# Altium footprint library VH3.96.PcbLib: 14 footprints
Each footprint in its own frame and in the unit in brackets; x right, y up, seen from the top. Pads: shape width x height; smd on the part's side, far side on the other; paste and mask are expansions set on the pad; w line width, h text height; cw(c..) or ccw(c..) is an arc to the next point about the centre after c.
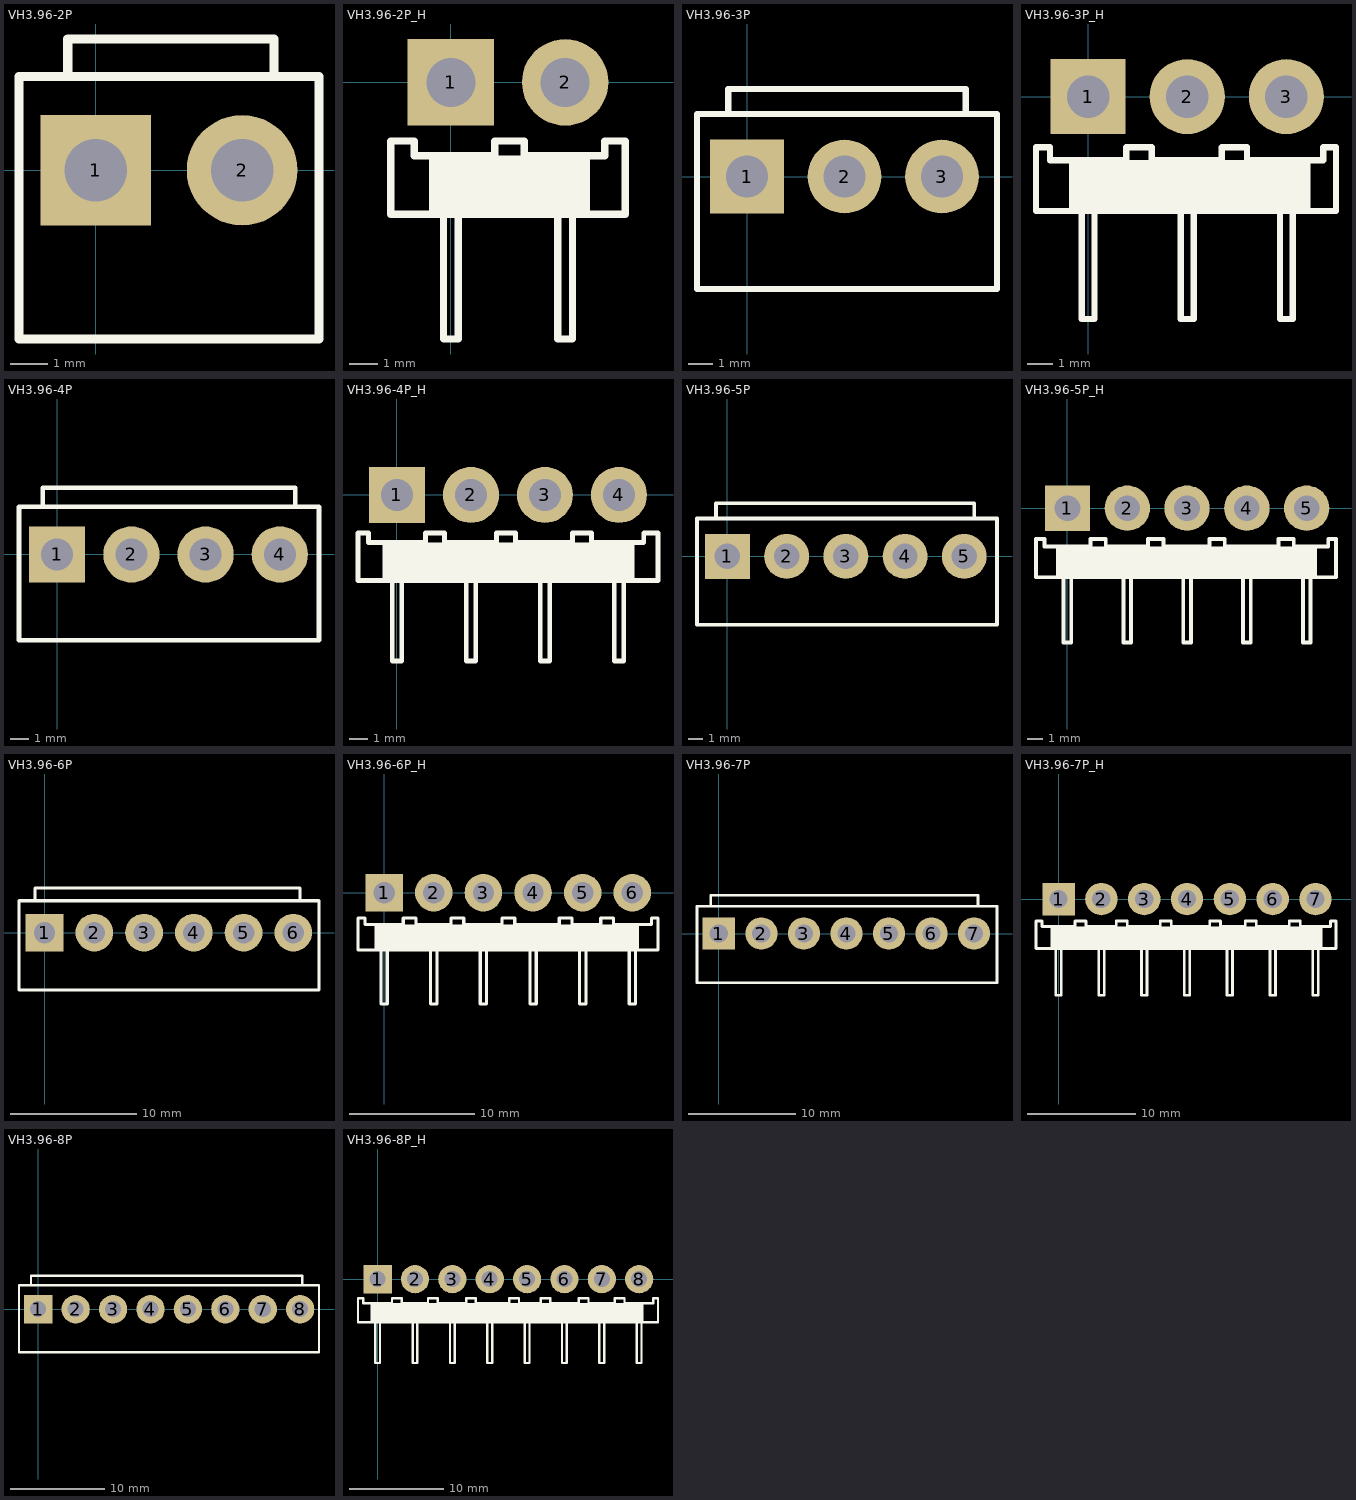
[diagram p0: the footprints below, top view; thin cyan lines are the x and y axes]

## VH3.96-2P [mm] "接插件，25V/5A"
pads (2):
  rect 3x3 hole 1.7: 1(0,0)
  round 3 hole 1.7: 2(3.962,0)
Top Overlay:
  lines w0.254: -0.762,2.54 -0.762,3.556 4.826,3.556 4.826,2.54 ; 6.045,0 6.045,-4.572 ; 6.045,-4.572 -0.356,-4.572 -2.083,-4.572 -2.083,2.54 6.045,2.54 6.045,-4.572
3D body: height 10.5, standoff -3.3, extent 1.96,-4.4 6.01,4.16
3D body: height 10.5, standoff -3.3, extent -2,-4.4 2.05,4.16

## VH3.96-2P_H [mm] "接插件，25V/5A"
pads (2):
  rect 3x3 hole 1.7: 1(0,0)
  round 3 hole 1.7: 2(3.962,0)
Top Overlay:
  rectangle: -0.762,-4.572 4.826,-2.54
  lines w0.254: 3.607,-4.572 4.216,-4.572 4.216,-8.89 3.962,-8.89 3.708,-8.89 3.708,-4.572 ; 6.045,-4.572 6.045,-2.032 ; 6.045,-4.572 -0.254,-4.572 -0.254,-8.89 0,-8.89 0.254,-8.89 0.254,-4.572 -0.356,-4.572 -2.083,-4.572 -2.083,-2.032 -1.27,-2.032 -1.27,-2.54 1.524,-2.54 1.524,-2.032 2.54,-2.032 2.54,-2.54 5.334,-2.54 5.334,-2.032 6.045,-2.032 ; 6.045,-4.572 6.045,-2.032
3D body: height 8.76, standoff -3.55, extent -2.025,-12 2.025,0.6
3D body: height 8.76, standoff -3.55, extent 1.937,-12 5.987,0.6

## VH3.96-3P [mm] "接插件，25V/5A"
pads (3):
  rect 3x3 hole 1.7: 1(0,0)
  round 3 hole 1.7: 2(3.962,0) 3(7.922,0)
Top Overlay:
  lines w0.254: -0.762,2.54 -0.762,3.556 8.89,3.556 8.89,2.54 ; -2.032,-4.572 -0.356,-4.572 10.16,-4.572 10.16,2.54 -2.032,2.54 -2.032,-4.572
3D body: height 10.5, standoff -3.3, extent 1.96,-4.4 6.01,4.16
3D body: height 10.5, standoff -3.3, extent -2,-4.4 2.05,4.16
3D body: height 10.5, standoff -3.3, extent 5.92,-4.4 9.97,4.16

## VH3.96-3P_H [mm] "接插件，25V/5A"
pads (3):
  rect 3x3 hole 1.7: 1(0,0)
  round 3 hole 1.7: 2(3.962,0) 3(7.92,0)
Top Overlay:
  rectangle: -0.762,-4.572 8.89,-2.54
  lines w0.254: 3.607,-4.572 4.216,-4.572 4.216,-8.89 3.962,-8.89 3.708,-8.89 3.708,-4.572 ; 7.564,-4.572 8.174,-4.572 8.174,-8.89 7.92,-8.89 7.666,-8.89 7.666,-4.572 ; -2.083,-4.572 -2.083,-2.032 -1.524,-2.032 -1.524,-2.54 1.524,-2.54 1.524,-2.032 2.54,-2.032 2.54,-2.54 5.334,-2.54 5.334,-2.032 6.045,-2.032 6.35,-2.032 6.35,-2.54 9.398,-2.54 9.398,-2.032 9.906,-2.032 9.906,-4.572 -0.254,-4.572 -0.254,-8.89 0,-8.89 0.254,-8.89 0.254,-4.572 -0.356,-4.572 -2.083,-4.572
3D body: height 8.76, standoff -3.55, extent -2.025,-12 2.025,0.6
3D body: height 8.76, standoff -3.55, extent 5.895,-12 9.945,0.6
3D body: height 8.76, standoff -3.55, extent 1.935,-12 5.985,0.6

## VH3.96-4P [mm] "接插件，25V/5A"
pads (4):
  rect 3x3 hole 1.7: 1(0,0)
  round 3 hole 1.7: 2(3.962,0) 3(7.922,0) 4(11.882,0)
Top Overlay:
  lines w0.254: -0.762,2.54 -0.762,3.556 12.7,3.556 12.7,2.54 ; -2.032,-4.572 -2.032,2.54 13.97,2.54 13.97,-4.572 -0.356,-4.572 -2.032,-4.572
3D body: height 10.5, standoff -3.3, extent -2,-4.4 2.05,4.16
3D body: height 10.5, standoff -3.3, extent 1.96,-4.4 6.01,4.16
3D body: height 10.5, standoff -3.3, extent 5.92,-4.4 9.97,4.16
3D body: height 10.5, standoff -3.3, extent 9.88,-4.4 13.93,4.16

## VH3.96-4P_H [mm] "接插件，25V/5A"
pads (4):
  rect 3x3 hole 1.7: 1(0,0)
  round 3 hole 1.7: 2(3.962,0) 3(7.92,0) 4(11.88,0)
Top Overlay:
  rectangle: -0.762,-4.572 12.7,-2.54
  lines w0.254: 3.607,-4.572 4.216,-4.572 4.216,-8.89 3.962,-8.89 3.708,-8.89 3.708,-4.572 ; 7.564,-4.572 8.174,-4.572 8.174,-8.89 7.92,-8.89 7.666,-8.89 7.666,-4.572 ; 11.524,-4.572 12.134,-4.572 12.134,-8.89 11.88,-8.89 11.626,-8.89 11.626,-4.572 ; -2.083,-4.572 -0.356,-4.572 0.254,-4.572 0.254,-8.89 0,-8.89 -0.254,-8.89 -0.254,-4.572 13.97,-4.572 13.97,-2.54 13.97,-2.032 13.208,-2.032 13.208,-2.54 10.414,-2.54 10.414,-2.032 9.906,-2.032 9.398,-2.032 9.398,-2.54 6.35,-2.54 6.35,-2.032 6.045,-2.032 5.334,-2.032 5.334,-2.54 2.54,-2.54 2.54,-2.032 1.524,-2.032 1.524,-2.54 -1.524,-2.54 -1.524,-2.032 -2.083,-2.032 -2.083,-4.572
3D body: height 8.76, standoff -3.55, extent -2.025,-12 2.025,0.6
3D body: height 8.76, standoff -3.55, extent 1.935,-12 5.985,0.6
3D body: height 8.76, standoff -3.55, extent 9.855,-12 13.905,0.6
3D body: height 8.76, standoff -3.55, extent 5.895,-12 9.945,0.6

## VH3.96-5P [mm] "接插件，25V/5A"
pads (5):
  rect 3x3 hole 1.7: 1(0,0)
  round 3 hole 1.7: 2(3.962,0) 3(7.922,0) 4(11.882,0) 5(15.842,0)
Top Overlay:
  lines w0.254: -0.762,2.54 -0.762,3.556 16.51,3.556 16.51,2.54 ; -2.032,-4.572 -2.032,2.54 18.034,2.54 18.034,-4.572 -0.356,-4.572 -2.032,-4.572
3D body: height 10.5, standoff -3.3, extent 13.84,-4.4 17.89,4.16
3D body: height 10.5, standoff -3.3, extent -2,-4.4 2.05,4.16
3D body: height 10.5, standoff -3.3, extent 1.96,-4.4 6.01,4.16
3D body: height 10.5, standoff -3.3, extent 5.92,-4.4 9.97,4.16
3D body: height 10.5, standoff -3.3, extent 9.878,-4.4 13.928,4.16

## VH3.96-5P_H [mm] "接插件，25V/5A"
pads (5):
  rect 3x3 hole 1.7: 1(0,0)
  round 3 hole 1.7: 2(3.962,0) 3(7.92,0) 4(11.88,0) 5(15.84,0)
Top Overlay:
  rectangle: -0.762,-4.572 16.51,-2.54
  lines w0.254: 3.607,-4.572 4.216,-4.572 4.216,-8.89 3.962,-8.89 3.708,-8.89 3.708,-4.572 ; 7.564,-4.572 8.174,-4.572 8.174,-8.89 7.92,-8.89 7.666,-8.89 7.666,-4.572 ; 11.524,-4.572 12.134,-4.572 12.134,-8.89 11.88,-8.89 11.626,-8.89 11.626,-4.572 ; 15.484,-4.572 16.094,-4.572 16.094,-8.89 15.84,-8.89 15.586,-8.89 15.586,-4.572 ; -2.083,-4.572 -0.356,-4.572 0.254,-4.572 0.254,-8.89 0,-8.89 -0.254,-8.89 -0.254,-4.572 13.97,-4.572 17.78,-4.572 17.78,-2.032 17.272,-2.032 17.272,-2.54 14.986,-2.54 14.986,-2.032 13.97,-2.032 13.97,-2.54 10.414,-2.54 10.414,-2.032 9.906,-2.032 9.398,-2.032 9.398,-2.54 6.35,-2.54 6.35,-2.032 6.045,-2.032 5.334,-2.032 5.334,-2.54 2.54,-2.54 2.54,-2.032 1.524,-2.032 1.524,-2.54 -1.524,-2.54 -1.524,-2.032 -2.083,-2.032 -2.083,-4.572
3D body: height 8.76, standoff -3.55, extent -2.025,-12 2.025,0.6
3D body: height 8.76, standoff -3.55, extent 9.855,-12 13.905,0.6
3D body: height 8.76, standoff -3.55, extent 1.935,-12 5.985,0.6
3D body: height 8.76, standoff -3.55, extent 13.815,-12 17.865,0.6
3D body: height 8.76, standoff -3.55, extent 5.895,-12 9.945,0.6

## VH3.96-6P [mm] "接插件，25V/5A"
pads (6):
  rect 3x3 hole 1.7: 1(0,0)
  round 3 hole 1.7: 2(3.962,0) 3(7.922,0) 4(11.882,0) 5(15.842,0) 6(19.802,0)
Top Overlay:
  lines w0.254: -0.762,2.54 -0.762,3.556 20.32,3.556 20.32,2.54 ; -2.032,-4.572 -0.356,-4.572 21.844,-4.572 21.844,2.54 -2.032,2.54 -2.032,-4.572
3D body: height 10.5, standoff -3.3, extent 17.8,-4.4 21.85,4.16
3D body: height 10.5, standoff -3.3, extent 9.878,-4.4 13.928,4.16
3D body: height 10.5, standoff -3.3, extent 5.92,-4.4 9.97,4.16
3D body: height 10.5, standoff -3.3, extent 1.96,-4.4 6.01,4.16
3D body: height 10.5, standoff -3.3, extent -2,-4.4 2.05,4.16
3D body: height 10.5, standoff -3.3, extent 13.838,-4.4 17.888,4.16

## VH3.96-6P_H [mm] "接插件，25V/5A"
pads (6):
  rect 3x3 hole 1.7: 1(0,0)
  round 3 hole 1.7: 2(3.962,0) 3(7.92,0) 4(11.88,0) 5(15.84,0) 6(19.8,0)
Top Overlay:
  rectangle: -0.762,-4.572 20.32,-2.54
  lines w0.254: 3.607,-4.572 4.216,-4.572 4.216,-8.89 3.962,-8.89 3.708,-8.89 3.708,-4.572 ; 7.564,-4.572 8.174,-4.572 8.174,-8.89 7.92,-8.89 7.666,-8.89 7.666,-4.572 ; 11.524,-4.572 12.134,-4.572 12.134,-8.89 11.88,-8.89 11.626,-8.89 11.626,-4.572 ; 15.484,-4.572 16.094,-4.572 16.094,-8.89 15.84,-8.89 15.586,-8.89 15.586,-4.572 ; 19.444,-4.572 20.054,-4.572 20.054,-8.89 19.8,-8.89 19.546,-8.89 19.546,-4.572 ; -2.083,-4.572 -2.083,-2.032 -1.524,-2.032 -1.524,-2.54 1.524,-2.54 1.524,-2.032 2.54,-2.032 2.54,-2.54 5.334,-2.54 5.334,-2.032 6.045,-2.032 6.35,-2.032 6.35,-2.54 9.398,-2.54 9.398,-2.032 9.906,-2.032 10.414,-2.032 10.414,-2.54 13.97,-2.54 13.97,-2.032 14.986,-2.032 14.986,-2.54 17.272,-2.54 17.272,-2.032 17.78,-2.032 18.288,-2.032 18.288,-2.54 21.336,-2.54 21.336,-2.032 21.844,-2.032 21.844,-4.572 17.78,-4.572 13.97,-4.572 -0.254,-4.572 -0.254,-8.89 0,-8.89 0.254,-8.89 0.254,-4.572 -0.356,-4.572 -2.083,-4.572
3D body: height 8.76, standoff -3.55, extent -2.025,-12 2.025,0.6
3D body: height 8.76, standoff -3.55, extent 13.815,-12 17.865,0.6
3D body: height 8.76, standoff -3.55, extent 5.895,-12 9.945,0.6
3D body: height 8.76, standoff -3.55, extent 17.775,-12 21.825,0.6
3D body: height 8.76, standoff -3.55, extent 1.935,-12 5.985,0.6
3D body: height 8.76, standoff -3.55, extent 9.855,-12 13.905,0.6

## VH3.96-7P [mm] "接插件，25V/5A"
pads (7):
  rect 3x3 hole 1.7: 1(0,0)
  round 3 hole 1.7: 2(3.962,0) 3(7.922,0) 4(11.882,0) 5(15.842,0) 6(19.802,0) 7(23.762,0)
Top Overlay:
  lines w0.254: -0.762,2.54 -0.762,3.556 24.13,3.556 24.13,2.54 ; -2.032,-4.572 -2.032,2.54 25.908,2.54 25.908,-4.572 -0.356,-4.572 -2.032,-4.572
3D body: height 10.5, standoff -3.3, extent 21.76,-4.4 25.81,4.16
3D body: height 10.5, standoff -3.3, extent 17.795,-4.4 21.845,4.16
3D body: height 10.5, standoff -3.3, extent 13.838,-4.4 17.888,4.16
3D body: height 10.5, standoff -3.3, extent -2,-4.4 2.05,4.16
3D body: height 10.5, standoff -3.3, extent 1.96,-4.4 6.01,4.16
3D body: height 10.5, standoff -3.3, extent 5.92,-4.4 9.97,4.16
3D body: height 10.5, standoff -3.3, extent 9.878,-4.4 13.928,4.16

## VH3.96-7P_H [mm] "接插件，25V/5A"
pads (7):
  rect 3x3 hole 1.7: 1(0,0)
  round 3 hole 1.7: 2(3.962,0) 3(7.92,0) 4(11.88,0) 5(15.84,0) 6(19.8,0) 7(23.76,0)
Top Overlay:
  rectangle: -0.762,-4.572 24.384,-2.54
  lines w0.254: 3.607,-4.572 4.216,-4.572 4.216,-8.89 3.962,-8.89 3.708,-8.89 3.708,-4.572 ; 7.564,-4.572 8.174,-4.572 8.174,-8.89 7.92,-8.89 7.666,-8.89 7.666,-4.572 ; 11.524,-4.572 12.134,-4.572 12.134,-8.89 11.88,-8.89 11.626,-8.89 11.626,-4.572 ; 15.484,-4.572 16.094,-4.572 16.094,-8.89 15.84,-8.89 15.586,-8.89 15.586,-4.572 ; 19.444,-4.572 20.054,-4.572 20.054,-8.89 19.8,-8.89 19.546,-8.89 19.546,-4.572 ; 23.404,-4.572 24.014,-4.572 24.014,-8.89 23.76,-8.89 23.506,-8.89 23.506,-4.572 ; -2.083,-4.572 -0.356,-4.572 0.254,-4.572 0.254,-8.89 0,-8.89 -0.254,-8.89 -0.254,-4.572 13.97,-4.572 17.78,-4.572 21.844,-4.572 25.654,-4.572 25.654,-2.032 25.146,-2.032 25.146,-2.54 22.352,-2.54 22.352,-2.032 21.844,-2.032 21.336,-2.032 21.336,-2.54 18.288,-2.54 18.288,-2.032 17.78,-2.032 17.272,-2.032 17.272,-2.54 14.986,-2.54 14.986,-2.032 13.97,-2.032 13.97,-2.54 10.414,-2.54 10.414,-2.032 9.906,-2.032 9.398,-2.032 9.398,-2.54 6.35,-2.54 6.35,-2.032 6.045,-2.032 5.334,-2.032 5.334,-2.54 2.54,-2.54 2.54,-2.032 1.524,-2.032 1.524,-2.54 -1.524,-2.54 -1.524,-2.032 -2.083,-2.032 -2.083,-4.572
3D body: height 8.76, standoff -3.55, extent -2.025,-12 2.025,0.6
3D body: height 8.76, standoff -3.55, extent 17.775,-12 21.825,0.6
3D body: height 8.76, standoff -3.55, extent 9.855,-12 13.905,0.6
3D body: height 8.76, standoff -3.55, extent 1.935,-12 5.985,0.6
3D body: height 8.76, standoff -3.55, extent 21.735,-12 25.785,0.6
3D body: height 8.76, standoff -3.55, extent 5.895,-12 9.945,0.6
3D body: height 8.76, standoff -3.55, extent 13.815,-12 17.865,0.6

## VH3.96-8P [mm] "接插件，25V/5A"
pads (8):
  rect 3x3 hole 1.7: 1(0,0)
  round 3 hole 1.7: 2(3.962,0) 3(7.922,0) 4(11.882,0) 5(15.842,0) 6(19.802,0) 7(23.762,0) 8(27.722,0)
Top Overlay:
  lines w0.254: -0.762,2.54 -0.762,3.556 27.94,3.556 27.94,2.54 ; -2.032,-4.572 -0.356,-4.572 29.718,-4.572 29.718,2.54 -2.032,2.54 -2.032,-4.572
3D body: height 10.5, standoff -3.3, extent 25.72,-4.4 29.77,4.16
3D body: height 10.5, standoff -3.3, extent 9.878,-4.4 13.928,4.16
3D body: height 10.5, standoff -3.3, extent 5.92,-4.4 9.97,4.16
3D body: height 10.5, standoff -3.3, extent 1.96,-4.4 6.01,4.16
3D body: height 10.5, standoff -3.3, extent -2,-4.4 2.05,4.16
3D body: height 10.5, standoff -3.3, extent 13.838,-4.4 17.888,4.16
3D body: height 10.5, standoff -3.3, extent 17.795,-4.4 21.845,4.16
3D body: height 10.5, standoff -3.3, extent 21.758,-4.4 25.808,4.16

## VH3.96-8P_H [mm] "接插件，25V/5A"
pads (8):
  rect 3x3 hole 1.7: 1(0,0)
  round 3 hole 1.7: 2(3.962,0) 3(7.92,0) 4(11.88,0) 5(15.84,0) 6(19.8,0) 7(23.76,0) 8(27.72,0)
Top Overlay:
  rectangle: -0.762,-4.572 28.194,-2.54
  lines w0.254: 3.607,-4.572 4.216,-4.572 4.216,-8.89 3.962,-8.89 3.708,-8.89 3.708,-4.572 ; 7.564,-4.572 8.174,-4.572 8.174,-8.89 7.92,-8.89 7.666,-8.89 7.666,-4.572 ; 11.524,-4.572 12.134,-4.572 12.134,-8.89 11.88,-8.89 11.626,-8.89 11.626,-4.572 ; 15.484,-4.572 16.094,-4.572 16.094,-8.89 15.84,-8.89 15.586,-8.89 15.586,-4.572 ; 19.444,-4.572 20.054,-4.572 20.054,-8.89 19.8,-8.89 19.546,-8.89 19.546,-4.572 ; 23.404,-4.572 24.014,-4.572 24.014,-8.89 23.76,-8.89 23.506,-8.89 23.506,-4.572 ; 27.364,-4.572 27.974,-4.572 27.974,-8.89 27.72,-8.89 27.466,-8.89 27.466,-4.572 ; -2.083,-4.572 -0.356,-4.572 0.254,-4.572 0.254,-8.89 0,-8.89 -0.254,-8.89 -0.254,-4.572 13.97,-4.572 17.78,-4.572 21.844,-4.572 25.654,-4.572 29.718,-4.572 29.718,-2.032 29.21,-2.032 29.21,-2.54 26.162,-2.54 26.162,-2.032 25.654,-2.032 25.146,-2.032 25.146,-2.54 22.352,-2.54 22.352,-2.032 21.844,-2.032 21.336,-2.032 21.336,-2.54 18.288,-2.54 18.288,-2.032 17.78,-2.032 17.272,-2.032 17.272,-2.54 14.986,-2.54 14.986,-2.032 13.97,-2.032 13.97,-2.54 10.414,-2.54 10.414,-2.032 9.906,-2.032 9.398,-2.032 9.398,-2.54 6.35,-2.54 6.35,-2.032 6.045,-2.032 5.334,-2.032 5.334,-2.54 2.54,-2.54 2.54,-2.032 1.524,-2.032 1.524,-2.54 -1.524,-2.54 -1.524,-2.032 -2.083,-2.032 -2.083,-4.572
3D body: height 8.76, standoff -3.55, extent 21.735,-12 25.785,0.6
3D body: height 8.76, standoff -3.55, extent 17.775,-12 21.825,0.6
3D body: height 8.76, standoff -3.55, extent 9.855,-12 13.905,0.6
3D body: height 8.76, standoff -3.55, extent 1.935,-12 5.985,0.6
3D body: height 8.76, standoff -3.55, extent 25.695,-12 29.745,0.6
3D body: height 8.76, standoff -3.55, extent 5.895,-12 9.945,0.6
3D body: height 8.76, standoff -3.55, extent 13.815,-12 17.865,0.6
3D body: height 8.76, standoff -3.55, extent -2.025,-12 2.025,0.6